# Altium footprint library PcbLib1.PcbLib: 85 footprints (part 1 of 6)
Each footprint in its own frame and in the unit in brackets; x right, y up, seen from the top. Pads: shape width x height; smd on the part's side, far side on the other; paste and mask are expansions set on the pad; w line width, h text height; cw(c..) or ccw(c..) is an arc to the next point about the centre after c.
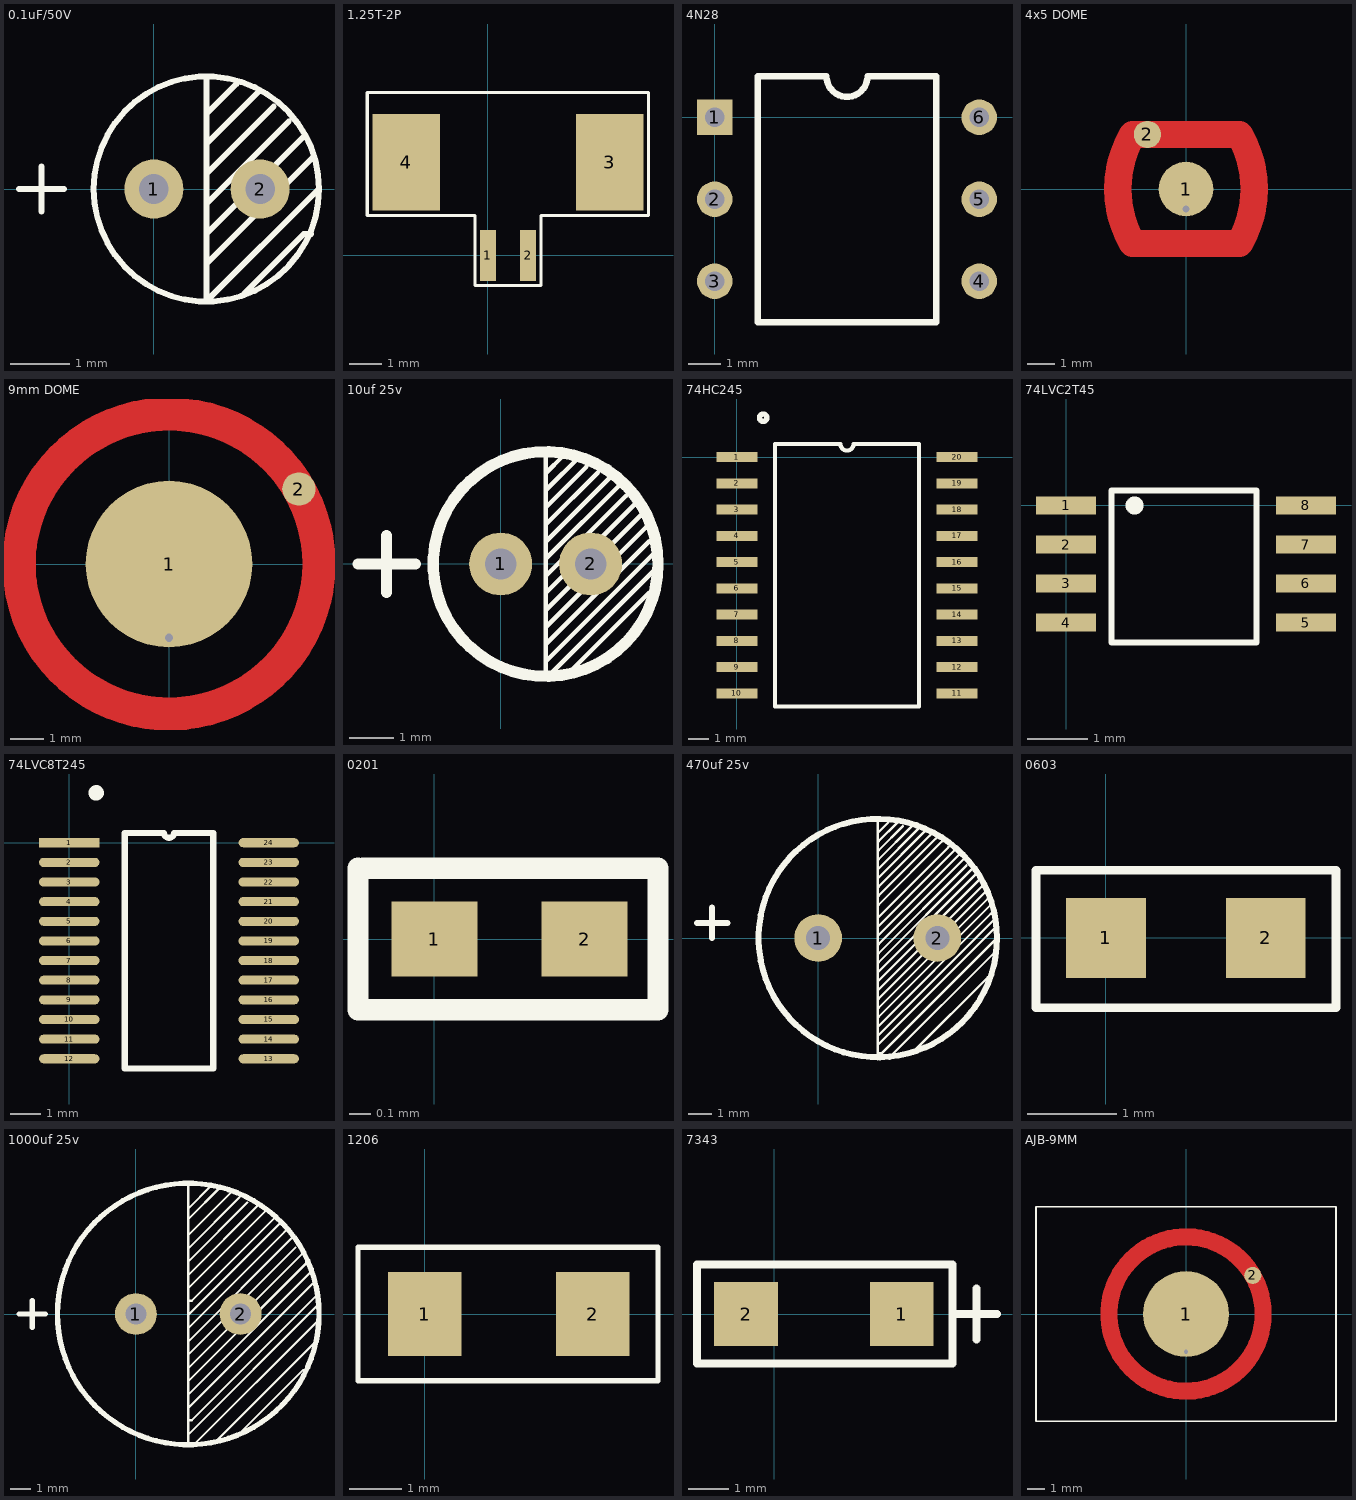
[diagram p0: the footprints below, top view; thin cyan lines are the x and y axes]

## 0.1uF/50V [mm]
pads (2):
  round 1 hole 0.5: 1(0,0) 2(1.8,0)
Top Overlay:
  circle w0.1: c0.889,0 r1.909
  lines w0.1: -2.286,0 -1.524,0 ; -1.905,-0.381 -1.905,0.381 ; 0.889,-1.27 2.667,0.508 ; 0.889,-0.889 0.889,-0.762 2.54,0.889 ; 0.889,-0.254 2.286,1.143 ; 0.889,0.254 2.032,1.397 ; 0.889,0.762 1.778,1.651 ; 0.889,1.27 1.397,1.778 ; 0.889,1.905 0.889,-1.905 2.794,0 2.798,0 ; 1.524,-1.778 2.54,-0.762 2.667,-0.762

## 1.25T-2P [mm]
pads (4):
  rect 0.5x1.6 smd: 1(0,0) 2(1.25,0)
  rect 2.1x3 smd: 3(3.8,2.9) 4(-2.55,2.9)
Top Overlay:
  lines w0.1: -3.759,1.245 -0.406,1.245 -0.406,-0.94 1.651,-0.94 1.651,1.245 5.004,1.245 5.004,4.572 5.004,5.08 -3.759,5.08 -3.759,1.245

## 4N28 [mm]
pads (6):
  rect 1.1x1.1 hole 0.6: 1(0,0)
  round 1.1 hole 0.6: 2(0,-2.54) 3(0,-5.08) 4(8.2,-5.08) 5(8.2,-2.54) 6(8.2,0)
Top Overlay:
  lines w0.2: 1.335,-6.35 6.865,-6.35 6.865,1.27 4.735,1.27 cw(c4.1,1.27) 3.465,1.27 1.335,1.27 1.335,-6.35

## 4x5 DOME [mm]
pads (2):
  round 2 smd: 1(0,0)
  round 1 smd: 2(-1.416,2)
via 0,-0.737 diameter 0.5 hole 0.25
Top Layer:
  lines w1: -1.964,-2 cw(c1.5,0) -1.964,2 1.964,2 cw(c-1.5,0) 1.964,-2 -1.964,-2
Top Paste:
  lines w1: -1.964,2 ccw(c1.5,0) -1.964,-2 1.964,-2 ccw(c-1.5,0) 1.964,2 ; -1.964,2 1.964,2
Top Solder:
  lines w1.2: -1.964,2 ccw(c1.5,0) -1.964,-2 1.964,-2 ccw(c-1.5,0) 1.964,2 ; -1.964,2 1.964,2

## 9mm DOME [mm]
pads (2):
  round 5 smd: 1(0,0)
  round 1 smd: 2(3.897,2.25)
via 0,-2.21 diameter 0.5 hole 0.25
Top Layer:
  circle w1: c0,0 r4.5
Top Paste:
  circle w1: c0,0 r4.5
Top Solder:
  circle w1.2: c0,0 r4.5

## 10uf 25v [mm]
pads (2):
  round 1.4 hole 0.7: 1(0,0) 2(2,0)
Top Overlay:
  circle w0.254: c1,0 r2.5
  lines w0.1: 1,-1.778 1.016,-1.778 3.302,0.508 ; 1,-1.397 1.016,-1.397 3.302,0.889 ; 1,-0.635 1.016,-0.635 3.048,1.397 ; 1,-0.254 1.016,-0.254 2.794,1.524 ; 1,0.127 1.016,0.127 2.667,1.778 ; 1,1.905 1,2.016 ; 1,1.961 1,2.016 ; 1,2.54 1,-2.54 1,-2.5 1.056,-2.5 3.429,-0.127 ; 1.016,-2.159 3.429,0.254 ; 1.016,-1.016 3.175,1.143 ; 1.016,0.508 2.413,1.905 ; 1.016,0.889 2.159,2.032 ; 1.016,1.27 1.905,2.159 ; 1.016,1.651 1.778,2.413 ; 1.397,2.413 1,2.016 ; 1.524,-2.413 3.302,-0.635
  lines w0.254: -3.175,0 -1.905,0 ; -2.54,-0.635 -2.54,0.635

## 74HC245 [mm]
pads (20):
  rect 2x0.49 smd: 1(0,0) 2(0,-1.27) 3(0,-2.54) 4(0,-3.81) 5(0,-5.08) 6(0,-6.35) 7(0,-7.62) 8(0,-8.89) 9(0,-10.16) 10(0,-11.43) 11(10.65,-11.43) 12(10.65,-10.16) 13(10.65,-8.89) 14(10.65,-7.62) 15(10.65,-6.35) 16(10.65,-5.08) 17(10.65,-3.81) 18(10.65,-2.54) 19(10.65,-1.27) 20(10.65,0)
Top Overlay:
  circle w0.254: c1.27,1.905 r0.18
  lines w0.2: 1.835,-12.065 1.835,0.635 5.007,0.635 ccw(c5.325,0.635) 5.642,0.635 8.815,0.635 8.815,-12.065 1.835,-12.065

## 74LVC2T45 [mm]
pads (8):
  rect 1x0.3 smd: 1(0,0) 2(0,-0.65) 3(0,-1.3) 4(0,-1.95) 5(4,-1.95) 6(4,-1.3) 7(4,-0.65) 8(4,0)
Top Overlay:
  circle w0.2: c1.143,0 r0.05
  lines w0.1: 0.762,-2.286 3.175,-2.286 3.175,0.254 0.762,0.254 0.762,-2.286

## 74LVC8T245 [mm]
pads (24):
  rect 2x0.3 smd: 1(0,0)
  oval 2x0.3 smd: 2(0,-0.65) 3(0,-1.3) 4(0,-1.95) 5(0,-2.6) 6(0,-3.25) 7(0,-3.9) 8(0,-4.55) 9(0,-5.2) 10(0,-5.85) 11(0,-6.5) 12(0,-7.15) 13(6.6,-7.15) 14(6.6,-6.5) 15(6.6,-5.85) 16(6.6,-5.2) 17(6.6,-4.55) 18(6.6,-3.9) 19(6.6,-3.25) 20(6.6,-2.6) 21(6.6,-1.95) 22(6.6,-1.3) 23(6.6,-0.65) 24(6.6,0)
Top Overlay:
  circle w0.254: c0.889,1.651 r0.127
  lines w0.2: 1.835,-7.475 1.835,0.325 3.137,0.325 ccw(c3.3,0.325) 3.462,0.325 4.765,0.325 4.765,-7.475 1.835,-7.475

## 0201 [mm]
pads (2):
  rect 0.4x0.35 smd: 1(0,0) 2(0.7,0)
Top Overlay:
  lines w0.1: -0.356,0.33 -0.356,-0.33 1.041,-0.33 1.041,0.33 -0.33,0.33

## 470uf 25v [mm]
pads (2):
  round 2 hole 1: 1(0,0) 2(5,0)
Top Overlay:
  circle w0.254: c2.5,0 r5
  lines w0.1: 2.5,-5.08 2.5,4.953 ; 2.5,-4.826 2.674,-4.826 7.5,0 ; 2.5,-4.445 2.54,-4.445 7.366,0.381 ; 2.5,-4.064 2.54,-4.064 7.366,0.762 ; 2.5,-3.683 2.54,-3.683 7.239,1.016 ; 2.5,-3.302 2.54,-3.302 7.239,1.397 ; 2.5,-2.921 2.54,-2.921 7.112,1.651 ; 2.5,-2.54 2.54,-2.54 6.985,1.905 ; 2.5,-2.159 2.54,-2.159 6.858,2.159 ; 2.5,-1.778 2.54,-1.778 6.731,2.413 ; 2.5,-1.397 2.54,-1.397 6.604,2.667 ; 2.5,-1.016 2.54,-1.016 6.477,2.921 ; 2.5,-0.635 2.54,-0.635 6.223,3.048 ; 2.5,-0.254 2.54,-0.254 6.096,3.302 ; 2.5,0.127 2.54,0.127 5.969,3.556 ; 2.5,0.508 2.54,0.508 5.715,3.683 ; 2.5,0.889 2.54,0.889 5.461,3.81 ; 2.5,1.397 2.54,1.397 5.207,4.064 ; 2.5,2.159 2.54,2.159 4.699,4.318 ; 2.5,2.54 2.54,2.54 4.445,4.445 ; 2.5,2.921 2.54,2.921 4.191,4.572 ; 2.5,3.302 2.54,3.302 3.937,4.699 ; 2.54,1.778 4.953,4.191 ; 2.54,3.683 3.556,4.699 ; 2.54,4.064 3.302,4.826 ; 2.54,4.445 2.921,4.826 ; 3.048,-4.953 7.366,-0.635 ; 3.937,-4.699 4.064,-4.699 7.112,-1.651
  lines w0.254: -5.08,0.635 -3.81,0.635 ; -4.445,0 -4.445,1.27

## 0603 [mm]
pads (2):
  rect 0.9x0.9 smd: 1(0,0) 2(1.8,0)
Top Overlay:
  lines w0.1: -0.787,-0.787 2.591,-0.787 2.591,0.762 -0.787,0.762 -0.787,-0.787

## 1000uf 25v [mm]
pads (2):
  round 2 hole 1: 1(0,0) 2(5,0)
Top Overlay:
  circle w0.254: c2.5,0 r6.25
  lines w0.1: 2.5,-5.715 2.54,-5.715 8.636,0.381 ; 2.5,-4.445 2.54,-4.445 8.509,1.524 ; 2.5,-3.81 2.54,-3.81 8.382,2.032 ; 2.5,-3.175 2.54,-3.175 8.128,2.413 ; 2.5,-2.54 2.54,-2.54 8.001,2.921 ; 2.5,-1.27 2.54,-1.27 7.493,3.683 ; 2.5,-0.635 2.54,-0.635 7.112,3.937 ; 2.5,0.635 2.667,0.635 6.604,4.572 ; 2.5,1.905 2.54,1.905 5.842,5.207 ; 2.5,2.54 2.54,2.54 5.334,5.334 ; 2.5,3.175 2.54,3.175 4.953,5.588 ; 2.5,3.81 2.54,3.81 4.572,5.842 ; 2.5,4.445 2.5,4.532 4.064,6.096 ; 2.5,5.08 2.54,5.08 3.556,6.096 ; 2.5,6.223 2.5,-6.223 2.794,-6.223 8.636,-0.381 ; 2.54,-5.08 2.667,-5.08 8.636,0.889 ; 2.54,-1.905 7.62,3.175 ; 2.54,0 6.985,4.445 ; 2.54,1.27 6.223,4.953 ; 3.556,-6.096 3.81,-6.096 8.509,-1.397 ; 5.08,-5.588 8.001,-2.667
  lines w0.254: -5.588,0 -4.318,0 ; -4.953,-0.635 -4.953,0.635

## 1206 [mm]
pads (2):
  rect 1.4x1.6 smd: 1(0,0) 2(3.2,0)
Top Overlay:
  lines w0.1: -1.27,-1.27 4.445,-1.27 4.445,1.27 -1.27,1.27 -1.27,-1.27

## 7343 [mm]
pads (2):
  rect 1.6x1.6 smd: 1(3.2,0) 2(-0.7,0)
Top Overlay:
  lines w0.2: 4.572,0 4.953,0 5.588,0 ; 5.08,-0.635 5.08,0.635 ; -1.93,-1.245 4.47,-1.245 4.47,1.245 -1.93,1.245 -1.93,-1.245

## AJB-9MM [mm]
pads (2):
  round 5 smd: 1(0,0)
  round 1 smd: 2(3.897,2.25)
via 0,-2.21 diameter 0.5 hole 0.25
Top Layer:
  circle w1: c0,0 r4.5
Top Overlay:
  lines w0.1: -8.75,-6.25 8.75,-6.25 8.75,6.25 -8.75,6.25 -8.75,-6.25
Top Paste:
  circle w1: c0,0 r4.5
Top Solder:
  circle w1.2: c0,0 r4.5